# Altium footprint library Connector.PcbLib: 240 footprints (part 4 of 15)
Each footprint in its own frame and in the unit in brackets; x right, y up, seen from the top. Pads: shape width x height; smd on the part's side, far side on the other; paste and mask are expansions set on the pad; w line width, h text height; cw(c..) or ccw(c..) is an arc to the next point about the centre after c.
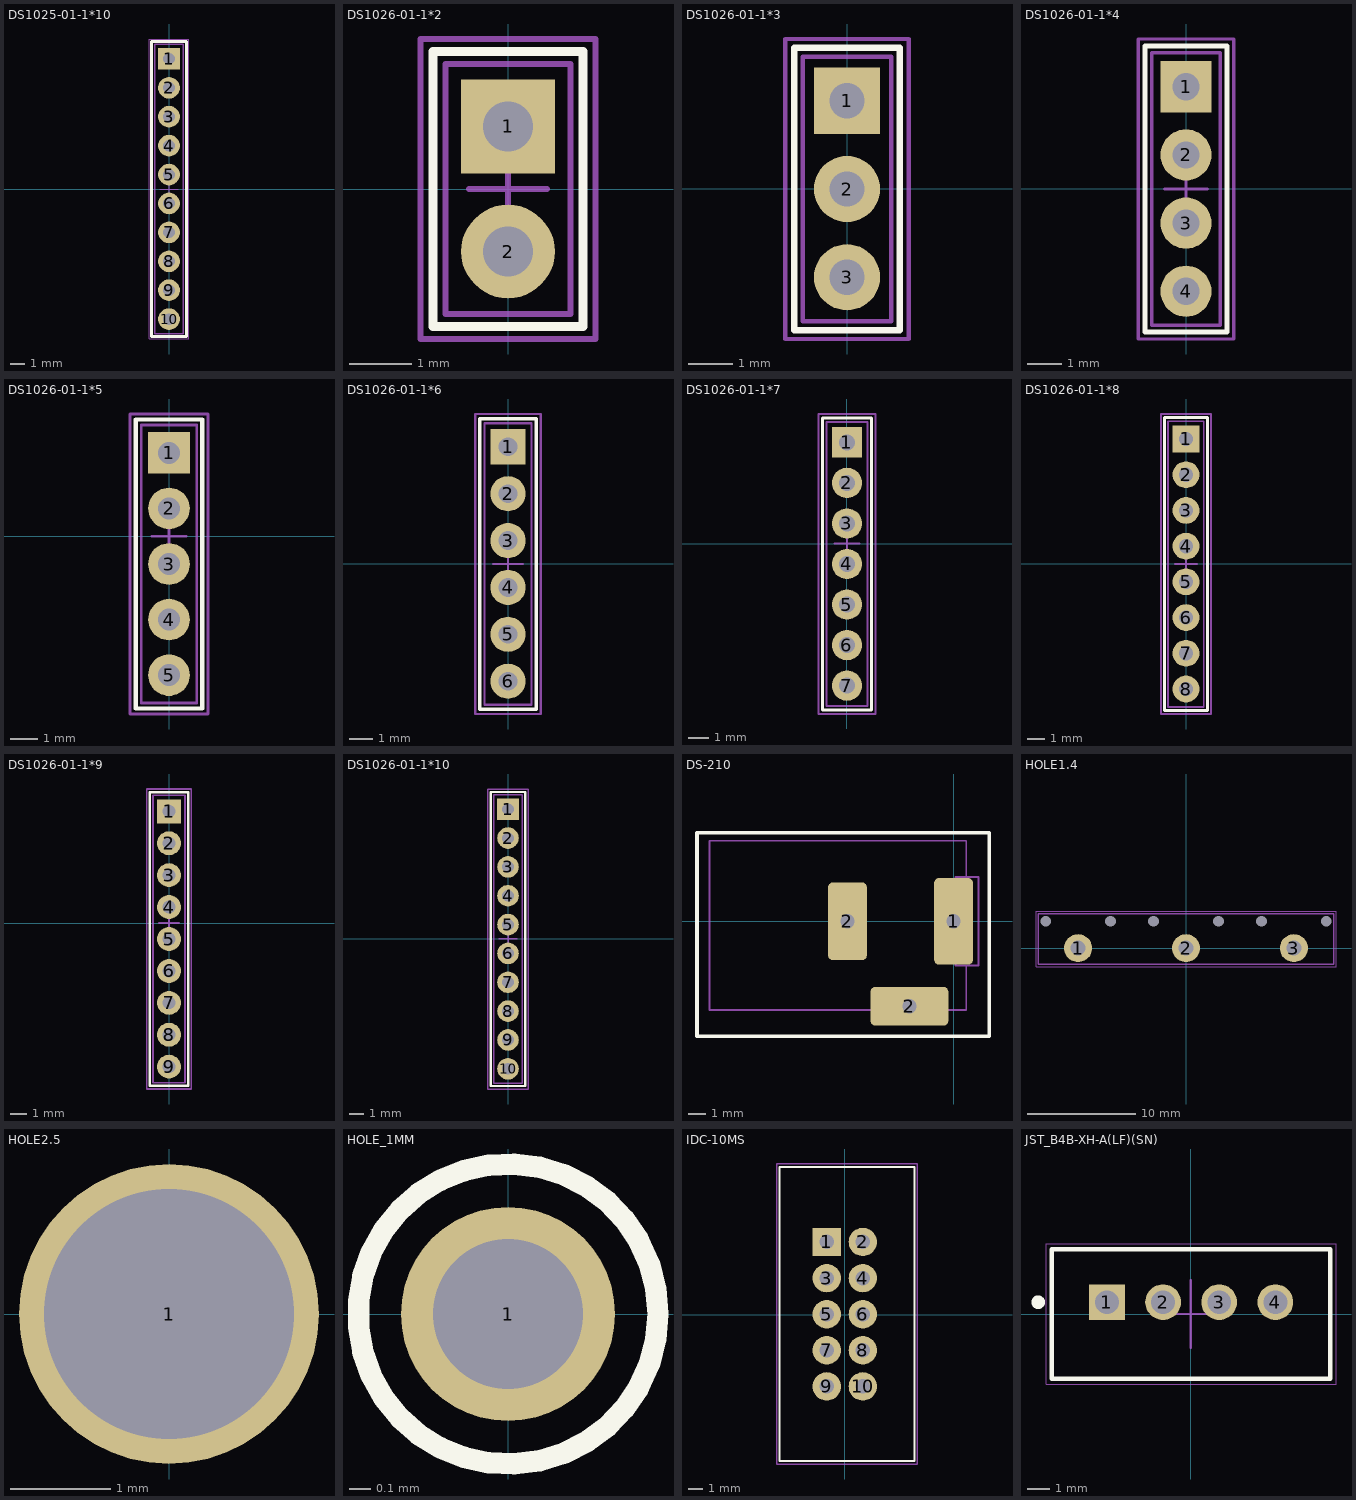
[diagram p3: the footprints below, top view; thin cyan lines are the x and y axes]

## DS1025-01-1*10 [mm]
height 0.05
pads (10):
  rect 1.5x1.5 hole 0.8: 1(0,9)
  round 1.5 hole 0.8: 2(0,7) 3(0,5) 4(0,3) 5(0,1) 6(0,-1) 7(0,-3) 8(0,-5) 9(0,-7) 10(0,-9)
Top Overlay:
  lines w0.2: -1.2,-10.2 1.2,-10.2 1.2,10.2 -1.2,10.2 -1.2,-10.2
Mechanical 13:
  lines w0.1: -1,-10 1,-10 1,10 -1,10 -1,-10
Mechanical 15:
  lines w0.05: -0.625,0 0.625,0 ; 0,-0.6 0,0.6 ; -1.375,-10.375 1.375,-10.375 1.375,10.375 -1.375,10.375 -1.375,-10.375
3D body "User Library-pls2-1.step": height 6, standoff -2.8, extent -1,-10 1,-8
3D body "User Library-pls2-1.step": height 6, standoff -2.8, extent -1,-6 1,-4
3D body "User Library-pls2-1.step": height 6, standoff -2.8, extent -1,-2 1,0
3D body "User Library-pls2-1.step": height 6, standoff -2.8, extent -1,2 1,4
3D body "User Library-pls2-1.step": height 6, standoff -2.8, extent -1,8 1,10
3D body "User Library-pls2-1.step": height 6, standoff -2.8, extent -1,6 1,8
3D body "User Library-pls2-1.step": height 6, standoff -2.8, extent -1,4 1,6
3D body "User Library-pls2-1.step": height 6, standoff -2.8, extent -1,0 1,2
3D body "User Library-pls2-1.step": height 6, standoff -2.8, extent -1,-4 1,-2
3D body "User Library-pls2-1.step": height 6, standoff -2.8, extent -1,-8 1,-6

## DS1026-01-1*2 [mm]
height 0.05
pads (2):
  rect 1.5x1.5 hole 0.8: 1(0,1)
  round 1.5 hole 0.8: 2(0,-1)
Top Overlay:
  lines w0.15: -1.2,-2.2 1.2,-2.2 1.2,2.2 -1.2,2.2 -1.2,-2.2
Mechanical 9:
  text ".Designator" at -5,3.1 h3.5
Mechanical 10:
  text ".Comment" at -3,-3.7 h2
Mechanical 11:
  lines w0.1: -1,-2 1,-2 1,2 -1,2 -1,-2
Mechanical 15:
  lines w0.1: -0.625,0 0.625,0 ; 0,-0.6 0,0.6 ; -1.4,-2.4 1.4,-2.4 1.4,2.4 -1.4,2.4 -1.4,-2.4
3D body "User Library-PBS2-2.STEP": height 4.35, standoff -3.1, extent -1,-2 1,2

## DS1026-01-1*3 [mm]
height 0.05
pads (3):
  rect 1.5x1.5 hole 0.8: 1(0,2)
  round 1.5 hole 0.8: 2(0,0) 3(0,-2)
Top Overlay:
  lines w0.15: -1.2,-3.2 -1.2,3.2 1.2,3.2 1.2,-3.2 -1.2,-3.2
Mechanical 9:
  text ".Designator" at -5,4.1 h3.5
Mechanical 10:
  text ".Comment" at -3,-5 h2
Mechanical 11:
  lines w0.1: -1,-3 -1,3 1,3 1,-3 -1,-3
Mechanical 15:
  lines w0.1: -0.625,0 0.625,0 ; 0,-0.6 0,0.6 ; -1.4,-3.4 -1.4,3.4 1.4,3.4 1.4,-3.4 -1.4,-3.4
3D body "User Library-PBS2-3.STEP": height 4.35, standoff -3.1, extent -1,-3 1,3

## DS1026-01-1*4 [mm]
height 0.05
pads (4):
  rect 1.5x1.5 hole 0.8: 1(0,3)
  round 1.5 hole 0.8: 2(0,1) 3(0,-1) 4(0,-3)
Top Overlay:
  lines w0.15: -1.2,-4.2 -1.2,4.2 1.2,4.2 1.2,-4.2 -1.2,-4.2
Mechanical 9:
  text ".Designator" at -5,5.1 h3.5
Mechanical 10:
  text ".Comment" at -3,-6.3 h2
Mechanical 11:
  lines w0.1: -1,-4 -1,4 1,4 1,-4 -1,-4
Mechanical 15:
  lines w0.1: -0.625,0 0.625,0 ; 0,-0.6 0,0.6 ; -1.4,-4.4 -1.4,4.4 1.4,4.4 1.4,-4.4 -1.4,-4.4
3D body "User Library-PBS2-2.STEP": height 4.35, standoff -3.1, extent -1,0 1,4
3D body "User Library-PBS2-2.STEP": height 4.35, standoff -3.1, extent -1,-4 1,0

## DS1026-01-1*5 [mm]
height 0.05
pads (5):
  rect 1.5x1.5 hole 0.8: 1(0,3)
  round 1.5 hole 0.8: 2(0,1) 3(0,-1) 4(0,-3) 5(0,-5)
Top Overlay:
  lines w0.15: -1.2,-6.2 -1.2,4.2 1.2,4.2 1.2,-6.2 -1.2,-6.2
Mechanical 9:
  text ".Designator" at -5,5.1 h3.5
Mechanical 10:
  text ".Comment" at -2.9,-8 h2
Mechanical 11:
  lines w0.1: -1,-6 -1,4 1,4 1,-6 -1,-6
Mechanical 15:
  lines w0.1: -0.625,0 0.625,0 ; 0,-0.6 0,0.6 ; -1.4,-6.4 -1.4,4.4 1.4,4.4 1.4,-6.4 -1.4,-6.4
3D body "User Library-PBS2-3.STEP": height 4.35, standoff -3.1, extent -1,-6 1,0
3D body "User Library-PBS2-2.STEP": height 4.35, standoff -3.1, extent -1,0 1,4

## DS1026-01-1*6 [mm]
height 0.05
pads (6):
  rect 1.5x1.5 hole 0.8: 1(0,5)
  round 1.5 hole 0.8: 2(0,3) 3(0,1) 4(0,-1) 5(0,-3) 6(0,-5)
Top Overlay:
  lines w0.15: -1.2,-6.2 -1.2,6.2 1.2,6.2 1.2,-6.2 -1.2,-6.2
Mechanical 9:
  text ".Designator" at -5.1,7.2 h3.5
Mechanical 10:
  text ".Comment" at -3.3,-7.8 h2
Mechanical 11:
  lines w0.1: -1,-6 -1,6 1,6 1,-6 -1,-6
Mechanical 15:
  lines w0.1: -0.625,0 0.625,0 ; 0,-0.6 0,0.6 ; -1.4,-6.4 -1.4,6.4 1.4,6.4 1.4,-6.4 -1.4,-6.4
3D body "User Library-PBS2-2.STEP": height 4.35, standoff -3.1, extent -1,-2 1,2
3D body "User Library-PBS2-2.STEP": height 4.35, standoff -3.1, extent -1,2 1,6
3D body "User Library-PBS2-2.STEP": height 4.35, standoff -3.1, extent -1,-6 1,-2

## DS1026-01-1*7 [mm]
height 0.05
pads (7):
  rect 1.5x1.5 hole 0.8: 1(0,5)
  round 1.5 hole 0.8: 2(0,3) 3(0,1) 4(0,-1) 5(0,-3) 6(0,-5) 7(0,-7)
Top Overlay:
  lines w0.15: -1.2,-8.2 1.2,-8.2 1.2,6.2 -1.2,6.2 -1.2,-8.2
Mechanical 9:
  text ".Designator" at -5.1,7.2 h3.5
Mechanical 10:
  text ".Comment" at -3.2,-9.7 h2
Mechanical 11:
  lines w0.1: -1,-8 1,-8 1,6 -1,6 -1,-8
Mechanical 15:
  lines w0.1: -0.625,0 0.625,0 ; 0,-0.6 0,0.6 ; -1.4,-8.4 1.4,-8.4 1.4,6.4 -1.4,6.4 -1.4,-8.4
3D body "User Library-PBS2-2.STEP": height 4.35, standoff -3.1, extent -1,-2 1,2
3D body "User Library-PBS2-2.STEP": height 4.35, standoff -3.1, extent -1,2 1,6
3D body "User Library-PBS2-3.STEP": height 4.35, standoff -3.1, extent -1,-8 1,-2

## DS1026-01-1*8 [mm]
height 0.05
pads (8):
  rect 1.5x1.5 hole 0.8: 1(0,7)
  round 1.5 hole 0.8: 2(0,5) 3(0,3) 4(0,1) 5(0,-1) 6(0,-3) 7(0,-5) 8(0,-7)
Top Overlay:
  lines w0.15: -1.2,-8.2 -1.2,8.2 1.2,8.2 1.2,-8.2 -1.2,-8.2
Mechanical 9:
  text ".Designator" at -5.1,9.2 h3.5
Mechanical 10:
  text ".Comment" at -3.2,-9.8 h2
Mechanical 11:
  lines w0.1: -1,-8 -1,8 1,8 1,-8 -1,-8
Mechanical 15:
  lines w0.1: -0.625,0 0.625,0 ; 0,-0.6 0,0.6 ; -1.4,-8.4 -1.4,8.4 1.4,8.4 1.4,-8.4 -1.4,-8.4
3D body "User Library-PBS2-2.STEP": height 4.35, standoff -3.1, extent -1,0 1,4
3D body "User Library-PBS2-2.STEP": height 4.35, standoff -3.1, extent -1,4 1,8
3D body "User Library-PBS2-2.STEP": height 4.35, standoff -3.1, extent -1,-4 1,0
3D body "User Library-PBS2-2.STEP": height 4.35, standoff -3.1, extent -1,-8 1,-4

## DS1026-01-1*9 [mm]
height 0.05
pads (9):
  rect 1.5x1.5 hole 0.8: 1(0,7)
  round 1.5 hole 0.8: 2(0,5) 3(0,3) 4(0,1) 5(0,-1) 6(0,-3) 7(0,-5) 8(0,-7) 9(0,-9)
Top Overlay:
  lines w0.15: -1.2,-10.2 1.2,-10.2 1.2,8.2 -1.2,8.2 -1.2,-10.2
Mechanical 9:
  text ".Designator" at -5.1,9.2 h3.5
Mechanical 10:
  text ".Comment" at -2.7,-12 h2
Mechanical 11:
  lines w0.1: -1,-10 1,-10 1,8 -1,8 -1,-10
Mechanical 15:
  lines w0.1: -0.625,0 0.625,0 ; 0,-0.6 0,0.6 ; -1.4,-10.4 1.4,-10.4 1.4,8.4 -1.4,8.4 -1.4,-10.4
3D body "User Library-PBS2-2.STEP": height 4.35, standoff -3.1, extent -1,0 1,4
3D body "User Library-PBS2-2.STEP": height 4.35, standoff -3.1, extent -1,4 1,8
3D body "User Library-PBS2-2.STEP": height 4.35, standoff -3.1, extent -1,-4 1,0
3D body "User Library-PBS2-3.STEP": height 4.35, standoff -3.1, extent -1,-10 1,-4

## DS1026-01-1*10 [mm]
height 0.05
pads (10):
  rect 1.5x1.5 hole 0.8: 1(0,9)
  round 1.5 hole 0.8: 2(0,7) 3(0,5) 4(0,3) 5(0,1) 6(0,-1) 7(0,-3) 8(0,-5) 9(0,-7) 10(0,-9)
Top Overlay:
  lines w0.15: -1.2,-10.2 -1.2,10.2 1.2,10.2 1.2,-10.2 -1.2,-10.2
Mechanical 9:
  text ".Designator" at -5.1,11.2 h3.5
Mechanical 10:
  text ".Comment" at -3.1,-12 h2
Mechanical 11:
  lines w0.1: -1,-10 -1,10 1,10 1,-10 -1,-10
Mechanical 15:
  lines w0.1: -0.625,0 0.625,0 ; 0,-0.6 0,0.6 ; -1.4,-10.4 -1.4,10.4 1.4,10.4 1.4,-10.4 -1.4,-10.4
3D body "User Library-PBS2-2.STEP": height 4.35, standoff -3.1, extent -1,2 1,6
3D body "User Library-PBS2-2.STEP": height 4.35, standoff -3.1, extent -1,6 1,10
3D body "User Library-PBS2-2.STEP": height 4.35, standoff -3.1, extent -1,-2 1,2
3D body "User Library-PBS2-2.STEP": height 4.35, standoff -3.1, extent -1,-6 1,-2
3D body "User Library-PBS2-2.STEP": height 4.35, standoff -3.1, extent -1,-10 1,-6

## DS-210 [mm] "Гнездо питания 2,1х5,5мм на панель"
pads (3):
  rrect25% 2.2x4.9 hole 0.8 square: 1(0,0)
  rrect25% 2.2x4.4 hole 0.8 square: 2(-6,0)
  rrect25% 4.4x2.2 hole 0.8 square: 2(-2.5,-4.8)
Top Overlay:
  lines w0.2: -14.5,-6.5 2,-6.5 2,5 -14.5,5 -14.5,-6.5
Mechanical 11:
  lines w0.1: -4.1,-5 -4.1,-5.5 -0.6,-5.5 -0.6,-5 ; 0.75,-2.5 0.712,-2.538 0.712,-5.004 -13.788,-5.004 -13.788,4.546 0.712,4.546 0.712,2.538 0.75,2.5 ; 0.1,-2.5 1.4,-2.5 1.4,2.5 0.1,2.5 0.1,-2.5
Mechanical 15:
  lines w0.05: -14.5,-6.5 -14.5,5 2,5 2,-6.5 -14.5,-6.5
3D body "User Library-ds-210.step": height 11.5, standoff -3.9, extent -13.788,-5.004 0.712,4.546

## HOLE1.4 [mm]
pads (9):
  round 2.6 hole 1.4: 1(-10,0) 2(0,0) 3(10,0)
  round 0 hole 1 unplated: ""(-13,2.5) ""(-7,2.5) ""(-3,2.5) ""(3,2.5) ""(7,2.5) ""(13,2.5)
Mechanical 11:
  lines w0.15: -13.7,-1.5 -13.7,3.2 13.7,3.2 13.7,-1.5 -13.7,-1.5
Mechanical 15:
  lines w0.1: -0.95,0 1.05,0 ; 0.05,-1 0.05,1 ; -13.9,-1.7 -13.9,3.4 13.9,3.4 13.9,-1.7 -13.9,-1.7

## HOLE2.5 [mm]
height 0.05
pads (1):
  round 3 hole 2.5: 1(0,0)

## HOLE_1MM [mm]
pads (1):
  round 1 hole 0.7: 1(0,0)
Top Overlay:
  circle w0.1: c0,0 r0.7

## IDC-10MS [mm]
height 0.05
pads (10):
  rect 2x2 hole 1.02: 1(-1.275,5.115)
  round 2 hole 1.02: 2(1.265,5.115) 3(-1.275,2.575) 4(1.265,2.575) 5(-1.275,0.035) 6(1.265,0.035) 7(-1.275,-2.505) 8(1.265,-2.505) 9(-1.275,-5.045) 10(1.265,-5.045)
Top Overlay:
  lines w0.15: -4.6,-10.3 -4.6,10.4 4.9,10.4 4.9,-10.3 -4.6,-10.3
Mechanical 9:
  text ".Designator" at -5.9,11.6 h3.5
Mechanical 10:
  text ".Comment" at -3,-11.9 h2
Mechanical 15:
  lines w0.1: -4.8,-10.5 -4.8,10.6 5.1,10.6 5.1,-10.5 -4.8,-10.5
3D body "User Library-BH-10___64.step": height 9.19, standoff -2.95, extent -4.45,-10.155 4.75,10.205

## JST_B4B-XH-A(LF)(SN) [mm]
height 0.05
pads (4):
  rect 1.59x1.59 hole 1.06: 1(-3.735,0.527)
  round 1.59 hole 1.06: 2(-1.235,0.527) 3(1.265,0.527) 4(3.765,0.527)
Top Overlay:
  circle w0.4: c-6.795,0.527 r0.1
  lines w0.2: -6.185,-2.873 6.215,-2.873 6.215,2.877 -6.185,2.877 -6.185,-2.873
Mechanical 7:
  lines w0.1: -6.185,-2.873 6.215,-2.873 6.215,2.877 -6.185,2.877 -6.185,-2.873
Mechanical 9:
  text ".Designator" at -5.6,3.9 h3.5
Mechanical 10:
  text ".Comment" at -2.6,-4.5 h2
Mechanical 15:
  lines w0.05: -6.435,-3.123 6.465,-3.123 6.465,3.127 -6.435,3.127 -6.435,-3.123
  lines w0.1: -1.5,0 1.5,0 ; 0,-1.5 0,1.5
3D body "step_temp.STEP": height 7, standoff -3.4, extent -6.185,-2.873 6.215,2.877